# EAGLE library part ATTINY43U (library atmel)
8-bit AVR tiny Microcontroller Status aktiv ATtiny43U General purpose working registers 32 SRAM 256 B Program flash memory 4 kB EEPROM 64 B 8-bit Timer/Counter 1 USI 1 ADC channels 4 ADC resolution 10 bit AC 1 Watchdog 1 General purpose I/O 16 External interrupts 16 Operating voltage 0.7 ... 1.8 V via on-chip boost converter 1.8 ... 5.5 V boost converter bypassed Speed grade 0 ... 4 MHz using on-chip boost converter 0 ... 4 MHz @ 1.8 ... 5.5 V 0 ... 8 MHz @ 2.7 ... 5.5 V Clock options calibrated internal 8 MHz oscillator internal 128 kHz oscillator external clock input
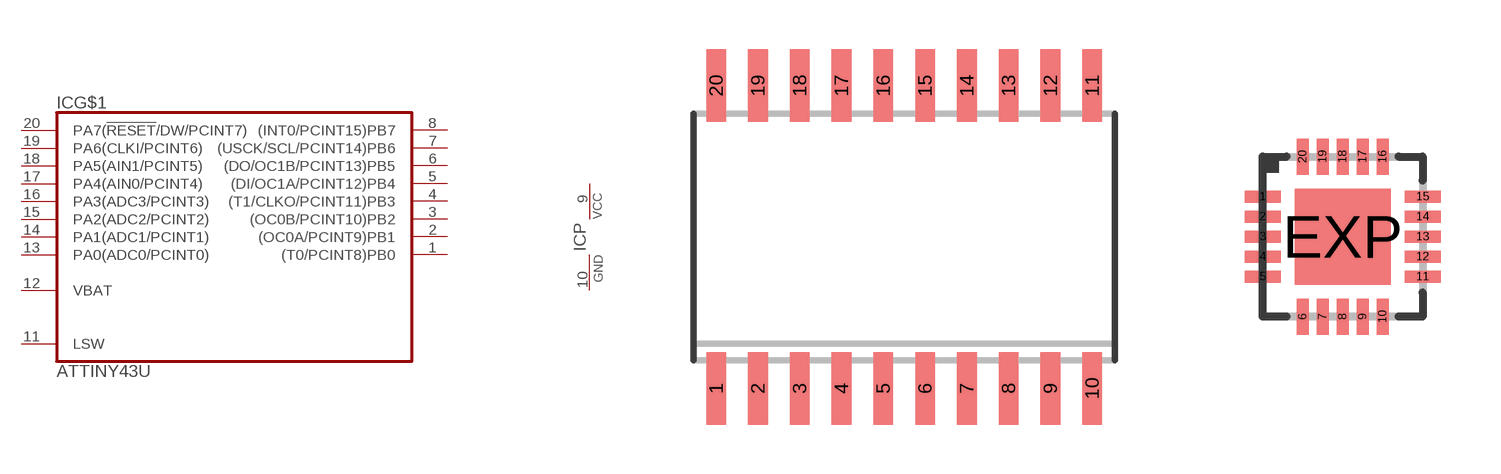
[diagram p77: symbol with the pads of SO20W; footprints SO20W, QFN20_4X4_0.50]

Designator prefix IC; gates G$1=TINY43U P=PWR

## ATTINY43U-SU  [SO20W]
1  G$1:(T0/PCINT8)PB0
2  G$1:(OC0A/PCINT9)PB1
3  G$1:(OC0B/PCINT10)PB2
4  G$1:(T1/CLKO/PCINT11)PB3
5  G$1:(DI/OC1A/PCINT12)PB4
6  G$1:(DO/OC1B/PCINT13)PB5
7  G$1:(USCK/SCL/PCINT14)PB6
8  G$1:(INT0/PCINT15)PB7
9  P:VCC  pwr
10  P:GND  pwr
11  G$1:LSW  pas
12  G$1:VBAT  pwr
13  G$1:PA0(ADC0/PCINT0)
14  G$1:PA1(ADC1/PCINT1)
15  G$1:PA2(ADC2/PCINT2)
16  G$1:PA3(ADC3/PCINT3)
17  G$1:PA4(AIN0/PCINT4)
18  G$1:PA5(AIN1/PCINT5)
19  G$1:PA6(CLKI/PCINT6)
20  G$1:PA7(!RESET!/DW/PCINT7)

## ATTINY43U-MU  [QFN20_4X4_0.50]
1  G$1:(OC0B/PCINT10)PB2
2  G$1:(T1/CLKO/PCINT11)PB3
3  G$1:(DI/OC1A/PCINT12)PB4
4  G$1:(DO/OC1B/PCINT13)PB5
5  G$1:(USCK/SCL/PCINT14)PB6
6  G$1:(INT0/PCINT15)PB7
7  P:VCC  pwr
8  P:GND  pwr
9  G$1:LSW  pas
10  G$1:VBAT  pwr
11  G$1:PA0(ADC0/PCINT0)
12  G$1:PA1(ADC1/PCINT1)
13  G$1:PA2(ADC2/PCINT2)
14  G$1:PA3(ADC3/PCINT3)
15  G$1:PA4(AIN0/PCINT4)
16  G$1:PA5(AIN1/PCINT5)
17  G$1:PA6(CLKI/PCINT6)
18  G$1:PA7(!RESET!/DW/PCINT7)
19  G$1:(T0/PCINT8)PB0
20  G$1:(OC0A/PCINT9)PB1
EXP  P:GND  pwr

## Footprint SO20W (pad centres in mm)
Small Outline IC, 300mil body width, 50mil lead pitch package/pad dimensions according to IPC-SM-782, RLP No. 306A JEDEC: MS-013 AC IPC: SO20W other notations: SO-20W, SOIC20W, SOIC-20W
smd 0.6 x 2.2: 1 -5.715,-4.6; 2 -4.445,-4.6; 3 -3.175,-4.6; 4 -1.905,-4.6; 5 -0.635,-4.6; 6 0.635,-4.6; 7 1.905,-4.6; 8 3.175,-4.6; 9 4.445,-4.6; 10 5.715,-4.6; 11 5.715,4.6; 12 4.445,4.6; 13 3.175,4.6; 14 1.905,4.6; 15 0.635,4.6; 16 -0.635,4.6; 17 -1.905,4.6; 18 -3.175,4.6; 19 -4.445,4.6; 20 -5.715,4.6

## Footprint QFN20_4X4_0.50 (pad centres in mm)
20-Lead Plastic QFN, 4mm x 4mm body, 0.5mm lead pitch, exposed pad 0.45 mm lead length JEDEC: MO-220 ATMEL Code: 20M1, ZFV other notations: MFL20
smd 0.9 x 0.3: 1 -2,1; 2 -2,0.5; 3 -2,0; 4 -2,-0.5; 5 -2,-1; 11 2,-1; 12 2,-0.5; 13 2,0; 14 2,0.5; 15 2,1
smd 0.3 x 0.9: 6 -1,-2; 7 -0.5,-2; 8 0,-2; 9 0.5,-2; 10 1,-2; 16 1,2; 17 0.5,2; 18 0,2; 19 -0.5,2; 20 -1,2
smd 2.4 x 2.4: EXP 0,0